# Altium schematic symbol library MBRS130T3G.SchLib: 1 symbol
Pins are listed as number, name and electrical type; pins without a type are passive.

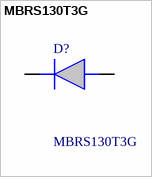
[diagram p0: symbol MBRS130T3G]

## MBRS130T3G
designator D?
Rectangular Package for Automated Handling; Case: Epoxy, Molded; Guardring for Stress Protection Mechanical Characteristics:; Shipped in 12 mm Tape and Reel, 2500 units per reel; Highly Stable Oxide Passivated Junction; Lead and Mounting Surface Temperature for Soldering Purposes: 260C Max. for 10 Seconds; Excellent Ability to Withstand Reverse Avalanche Energy Transients; Very Low Forward Voltage Drop (0.6 Volts Max @ 1.0 A, TJ = 25C); Weight: 95 mg (approximately); Marking: B13; Small Compact Surface Mou; Manufacturer_Name: onsemi; Geometry.Height: 2.47mm; Manufacturer_Part_Number: MBRS130T3G; Mouser Part Number: 863-MBRS130T3G; Mouser Price/Stock: https://www.mouser.co.uk/ProductDetail/onsemi/MBRS130T3G?qs=3JMERSakebp6is4BTPNy6g%3D%3D; Arrow Part Number: MBRS130T3G; Arrow Price/Stock: https://www.arrow.com/en/products/mbrs130t3g/on-semiconductor?region=nac; Datasheet Link: https://www.onsemi.com/pub/Collateral/MBRS130T3-D.PDF
footprint DIOM5436X247N
pins: 1 K, 2 A